# Altium integrated library lathe_library.IntLib: 6 symbols
Pins are listed as number, name and electrical type; pins without a type are passive.

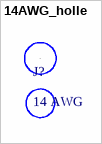
[diagram p0: symbol 14AWG_holle]

## 14AWG_holle
designator J?, comment 14 AWG
footprint 14AWG_holes
pins: 1 "12v", 2 "12v"


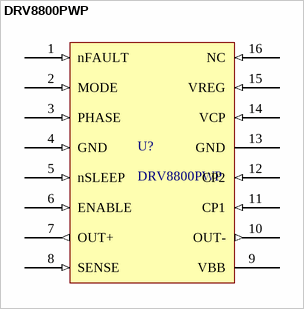
[diagram p1: symbol DRV8800PWP]

## DRV8800PWP
designator U?
IC MTR DRV BIPOLR 8-38V 16HTSSOP
footprint SOP65P640X120-17N
pins: 1 nFAULT (in), 2 MODE (in), 3 PHASE (in), 4 GND (in), 5 nSLEEP (in), 6 ENABLE (in), 7 OUT+ (out), 8 SENSE (in), 9 VBB (power), 10 OUT- (out), 11 CP1 (in), 12 CP2 (in), 13 GND (power), 14 VCP (in), 15 VREG (in), 16 NC (in)


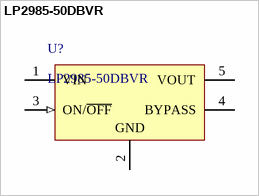
[diagram p2: symbol LP2985-50DBVR]

## LP2985-50DBVR
designator U?
Single Output Low Noise LDO, 150 mA, Fixed 5 V Output, 1.5% Tolerance, 2.2 to 16 V Input, Low IQ, 5-Pin SOT-23 (DBV), -40 to 125 degC, Green (RoHS & no Sb/Br), Tape and Reel; Manufacturer: Texas Instruments; Accuracy (%): 1.5; Iout (Max) (A): 0.15; Fixed Output Options (V): 5; Vdo (Typ) (mV): 280; Output Options: Fixed Output; Iq (Typ) (mA): 0.85; DatasheetVersion: SLVS522N; PackageDescription: 5-Pin Plastic Small Outline, Body 2.9 x 1.6 mm, Pitch 0.95 mm; RoHS: TRUE; ComponentLink3URL: http://www.ti.com/litv/pdf/mpds018j; PartNumber: LP2985-50DBVR; PackageReference: DBV0005A; ComponentLink2URL: http://www.ti.com/lit/ds/symlink/lp2985-50.pdf; Mounting Technology: Surface Mount; ComponentLink1Description: Manufacturer URL; Vin (V): 2.2 to 16; ComponentLink3Description: Package Specification; ComponentLink1URL: http://www.ti.com/; PackageVersion: 4073253-4/L; ComponentLink2Description: Datasheet; Packing: Tape and Reel; Operating Temperature Range (degC): -40 to 125
footprint DBV0005A_M (SOT23, 5-Leads, Body 3.05x1.75mm, Pitch 0.95mm, IPC Low Density)
footprint DBV0005A_L (SOT23, 5-Leads, Body 3.05x1.75mm, Pitch 0.95mm, IPC High Density)
footprint DBV0005A_N (SOT23, 5-Leads, Body 3.05x1.75mm, Pitch 0.95mm, IPC Medium Density)
pins: 1 VIN (power), 2 GND (power), 3 ON/~{OFF} (in), 4 BYPASS, 5 VOUT (power)


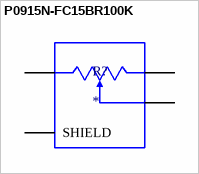
[diagram p3: symbol P0915N-FC15BR100K]

## P0915N-FC15BR100K
designator R?
100k Ohm 1 Gang Linear Panel Mount Potentiometer None 1 Kierros Conductive Plastic 0.05W, 1/20W PC Pins, Board Locks; MF: TT Electronics/BI; MP: P0915N-FC15BR100K; Check_prices: https://www.snapeda.com/parts/P0915N-FC15BR100K/TT%20Electronics/BI/view-part/1438723/?ref=eda; Price: None; Availability: Warning; SnapEDA_Link: https://www.snapeda.com/parts/P0915N-FC15BR100K/TT%20Electronics/BI/view-part/1438723/?ref=snap; Value: *; Package: None; Purchase-URL: https://pricing.snapeda.com/search/part/P0915N-FC15BR100K/?ref=eda
footprint TRIM_P0915N-FC15BR100K
pins: 1, 2, 3, S1 SHIELD, S2 SHIELD


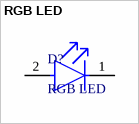
[diagram p4: symbol RGB LED]

## RGB LED
designator D?
footprint INDRD500W70D900H1220
pins: 1 C, 2 A


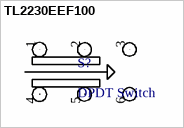
[diagram p5: symbol TL2230EEF100]

## TL2230EEF100
designator S?, comment DPDT Switch
footprint TL2230EEF100 (SWITCH PUSHBUTTON DPDT 0.1A 30V)
pins: 1 "12v", 2 "12v", 3 "12v", 4 "12v", 5 "12v", 6 "12v"